# EAGLE library part HEADER-8 (library homemade-hardware)
NPTC081KFXC-RC <https://www.digikey.com/product-detail/en/sullins-connector-solutions/NPTC081KFXC-RC/S5600-ND/776058>: Vertical Female SMD Headers TSM-110-01-T-SV <https://www.digikey.com/product-detail/en/samtec-inc/TSM-110-01-T-SV/SAM12267-ND/6691889>: Vertical Male SMD Headers M20-8890845 <https://www.digikey.com/products/en?keywords=952-3236-ND>: Horizontal Male SMD Headers M20-7910842R <https://www.digikey.com/product-detail/en/harwin-inc/M20-7910842R/952-3200-6-ND/6559341>: Horizontal Female SMD Headers
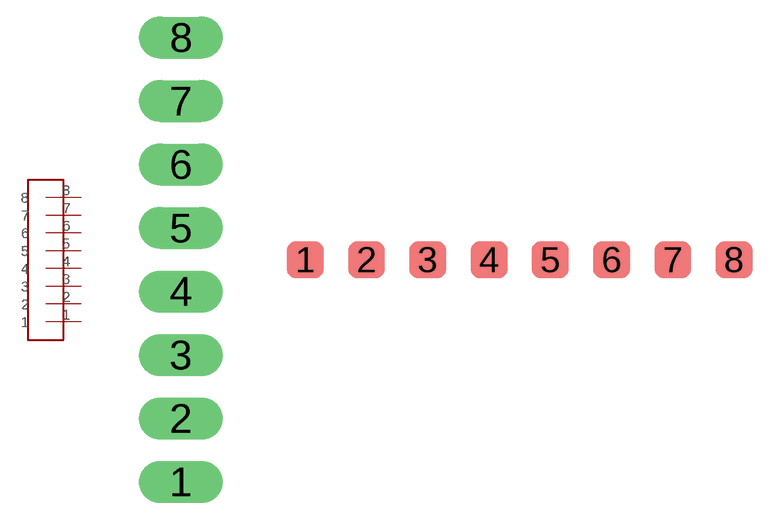
[diagram p2: symbol with the pads of HEADER-8-DIP; footprints HEADER-8-DIP, TESTPOINT-8]

Designator prefix -

## HEADER-8-DIP  [HEADER-8-DIP]
1  1
2  2
3  3
4  4
5  5
6  6
7  7
8  8

## HEADER-8-TESTPOINT  [TESTPOINT-8]
Pads as for HEADER-8-DIP

## HEADER-8-VERTICAL  [HEADER-8-VERTICAL]
Pads as for HEADER-8-DIP

## HEADER-8-HORIZONTAL  [HEADER-8-HORIZONTAL]
Pads as for HEADER-8-DIP

## Footprint HEADER-8-DIP (pad centres in mm)
drill 1.016 pad 1.676 long: 1 0,0; 2 0,2.54; 3 0,5.08; 4 0,7.62; 5 0,10.16; 6 0,12.7; 7 0,15.24; 8 0,17.78

## Footprint TESTPOINT-8 (pad centres in mm)
smd 1.524 x 1.524: 1 0,0; 2 2.54,0; 3 5.08,0; 4 7.62,0; 5 10.16,0; 6 12.7,0; 7 15.24,0; 8 17.78,0

## Footprint HEADER-8-VERTICAL (pad centres in mm)
smd 2 x 1: 1 1.65,0; 2 -1.65,2.54; 3 1.65,5.08; 4 -1.65,7.62; 5 1.65,10.16; 6 -1.65,12.7; 7 1.65,15.24; 8 -1.65,17.78

## Footprint HEADER-8-HORIZONTAL (pad centres in mm)
smd 3 x 1: 1 0,0; 2 0,2.54; 3 0,5.08; 4 0,7.62; 5 0,10.16; 6 0,12.7; 7 0,15.24; 8 0,17.78